# Altium footprint library Gan_cuk converter (2).PcbLib: 26 footprints (part 1 of 2)
Each footprint in its own frame and in the unit in brackets; x right, y up, seen from the top. Pads: shape width x height; smd on the part's side, far side on the other; paste and mask are expansions set on the pad; w line width, h text height; cw(c..) or ccw(c..) is an arc to the next point about the centre after c.
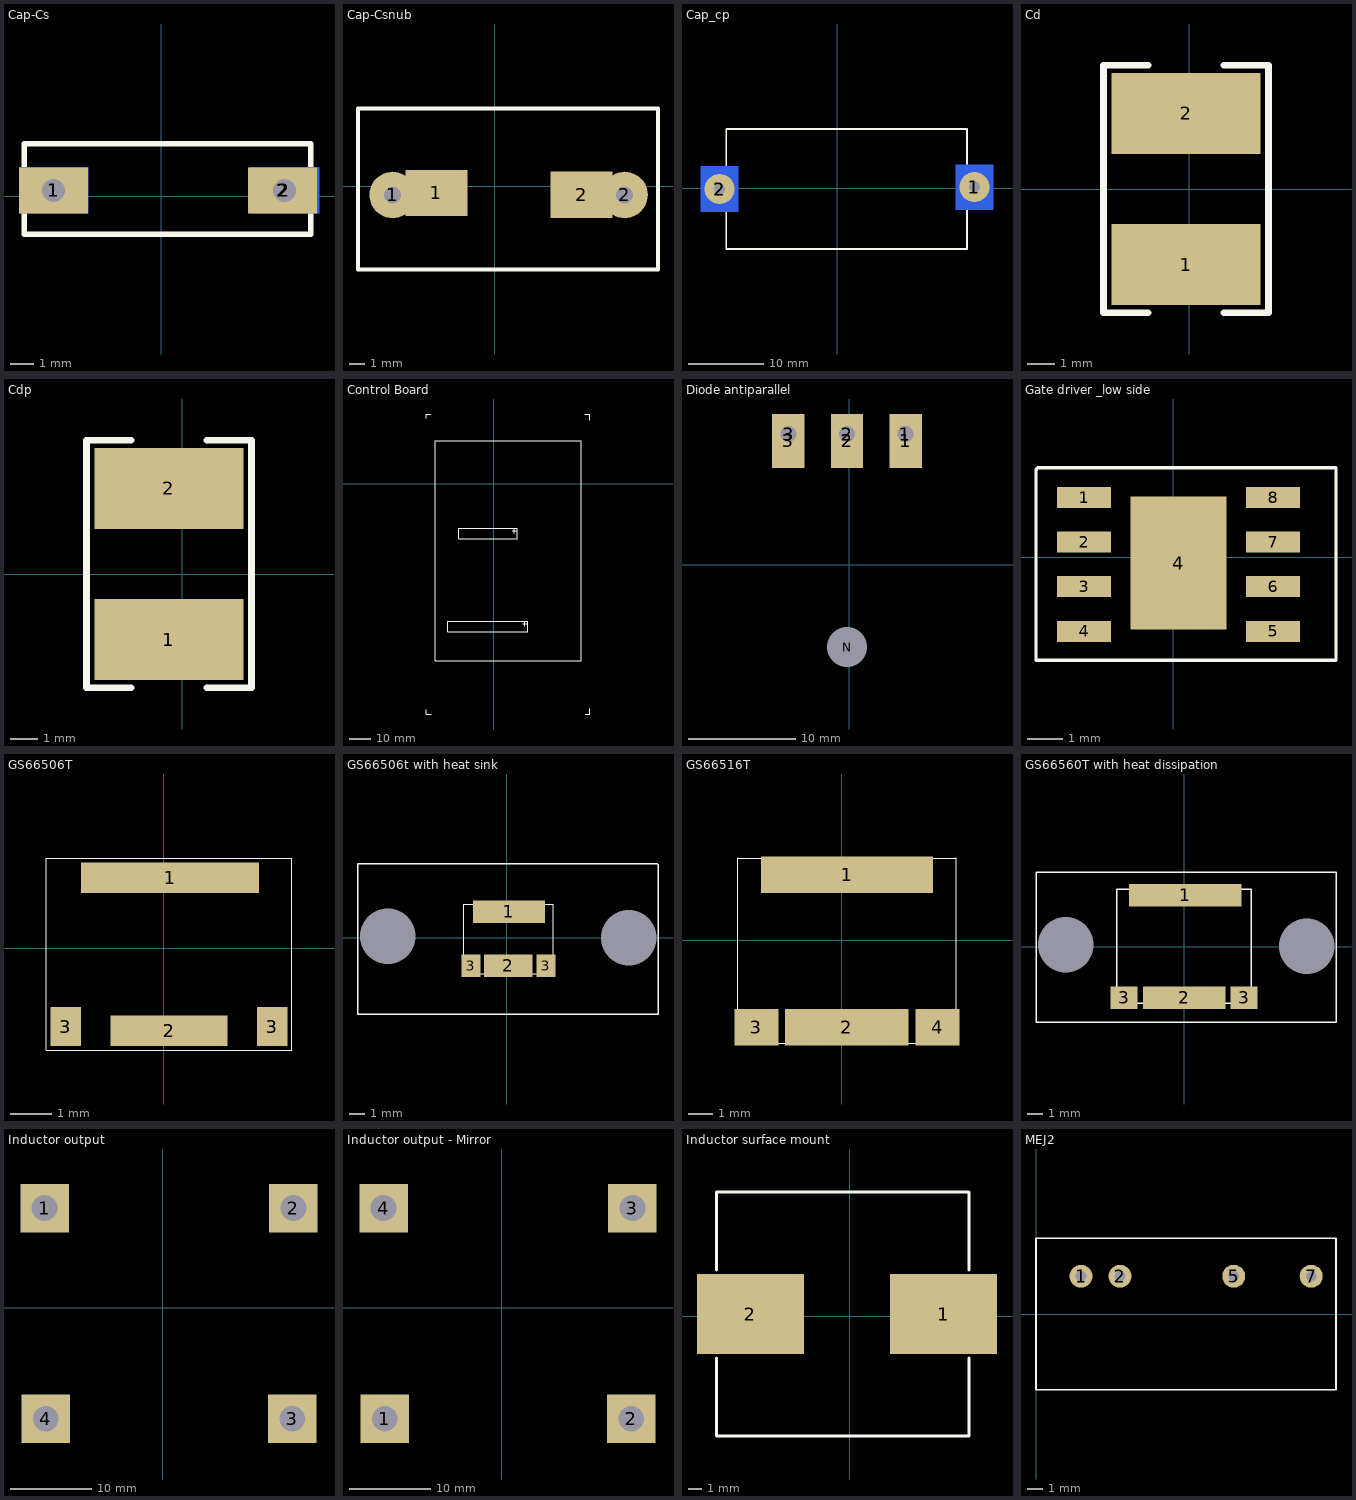
[diagram p0: the footprints below, top view; thin cyan lines are the x and y axes]

## Cap-Cs [mm]
pads (6):
  rect 2x2 hole 1: 1(-4.674,0.254) 2(5.359,0.254)
  rect 3x2 smd: 1(-4.674,0.254) 2(5.279,0.254)
  rect 3x2 smd far side: 1(-4.674,0.254) 2(5.359,0.254)
Top Overlay:
  lines w0.254: -5.944,-1.651 -5.944,2.286 -5.436,2.286 6.502,2.286 6.502,-1.651 -5.944,-1.651
3D body: height 12.7, standoff 0, extent -6.276,-0.848 6.961,1.356

## Cap-Csnub [mm]
pads (4):
  round 3 hole 1.1: 1(-6.607,-0.56) 2(8.421,-0.56)
  rect 4x3 smd: 1(-3.771,-0.433) 2(5.627,-0.56)
Top Overlay:
  lines w0.254: 10.453,-5.386 -8.851,-5.386 -8.851,5.028 10.58,5.028 10.58,3.885 10.58,-5.386
3D body: height 13.77, standoff 0, extent -8.209,-2.162 10.023,1.042

## Cap_cp [mm]
pads (4):
  round 4 hole 1.5: 1(18.263,0.127) 2(-15.646,-0.127)
  rect 5x6 smd far side: 1(18.263,0.127) 2(-15.646,-0.127)
Top Overlay:
  lines w0.254: -14.757,-8.128 17.247,-8.128 17.247,7.874 -14.757,7.874 -14.757,-8.128
3D body: height 22.78, standoff 0, extent -14.884,-8.255 17.374,8.001

## Cd [mm]
pads (2):
  rect 5.5x3 smd: 1(-0.127,-2.794) 2(-0.127,2.794)
Top Overlay:
  lines w0.254: -1.524,-4.572 -3.175,-4.572 -3.175,4.572 -1.524,4.572 ; 1.27,-4.572 2.921,-4.572 2.921,4.572 1.27,4.572

## Cdp [mm]
pads (2):
  rect 5.5x3 smd: 1(-0.483,-2.413) 2(-0.483,3.175)
Top Overlay:
  lines w0.254: -1.88,-4.191 -3.531,-4.191 -3.531,4.953 -1.88,4.953 ; 0.914,-4.191 2.565,-4.191 2.565,4.953 0.914,4.953

## Control Board [mm]
Top Overlay:
  lines w0.1: -27.8,20.5 41.65,20.5 41.65,-84.45 -27.8,-84.45 -27.8,20.525
  lines w0.2: -22.018,-70.646 16.082,-70.646 16.082,-65.566 -22.018,-65.566 -22.018,-70.646 ; -16.811,-26.323 -16.811,-21.243 11.129,-21.243 11.129,-26.323 -16.811,-26.323
  lines w0.254: 8.716,-22.513 11.129,-22.513 ; 9.859,-23.656 9.859,-21.243 ; 13.796,-66.836 15.955,-66.836 ; 14.812,-67.852 14.812,-65.566
  lines w0.3: -32.275,-107.73 -32.275,-109.732 -29.795,-109.732 ; -32.275,31.208 -32.275,33.24 -30.019,33.24 ; 43.387,33.24 45.8,33.24 45.8,30.319 ; 43.514,-109.732 45.673,-109.732 45.673,-107.349
3D body: height 50.8, standoff 22.86, extent -32.425,-109.882 45.95,33.39
3D body: height 20.32, standoff 10, extent -27.799,-84.449 41.649,20.499

## Diode antiparallel [mm]
pads (7):
  rect 2.5x2.5 hole 1.5: 1(5.25,12.149)
  rect 3x5 smd: 1(5.271,11.514) 2(-0.19,11.514) 3(-5.651,11.514)
  round 2.5 hole 1.5: 2(-0.19,12.149) 3(-5.63,12.149)
  round 1.5 / inner round 2.5 / far side round 2.5 hole 3.7: N(-0.19,-7.663)
Bottom Overlay:
  lines w0.254: -8.318,-13.886 7.938,-13.886 7.938,7.069 -8.318,7.069 -8.318,-13.886
3D body: height 5.08, standoff 0, extent -8.445,-14.013 8.065,7.196

## Gate driver _low side [mm]
pads (9):
  rect 1.55x0.6 smd: 1(-2.55,1.7) 2(-2.55,0.425) 3(-2.55,-0.85) 4(-2.55,-2.125) 5(2.85,-2.125) 6(2.85,-0.85) 7(2.85,0.425) 8(2.85,1.7)
  rect 2.74x3.8 smd: 4(0.15,-0.175)
Top Overlay:
  lines w0.1: -3.925,-2.95 -3.925,2.5 -3.875,2.55 4.65,2.55 4.65,-2.95 -3.925,-2.95

## GS66506T [mm] "Top cooled 650V enhancement mode GaN transistor"
height 0.44
pads (4):
  rect 4.3x0.74 smd: 1(0.15,1.7)
  rect 2.82x0.74 smd: 2(0.125,-2)
  rect 0.74x0.94 smd: 3(-2.375,-1.9) 3(2.625,-1.9)
Top Overlay:
  lines w0.025: -2.85,-2.475 -2.85,2.172 3.1,2.172 3.1,-2.475 -2.85,-2.475

## GS66506t with heat sink [mm]
pads (6):
  rect 4.8x1.5 smd: 1(0.15,1.7)
  rect 3.23x1.5 smd: 2(0.125,-1.9)
  rect 1.25x1.5 smd: 3(-2.375,-1.9) 3(2.625,-1.9)
  rect 0x0 hole 3.7: ""(-7.9,0.075) ""(8.15,-0.025)
Top Overlay:
  lines w0.025: -2.85,-2.425 3.1,-2.425 3.1,2.222 -2.85,2.222 -2.85,-2.425
  lines w0.1: 10.075,4.9 -9.9,4.9 -9.9,-5.1 10.1,-5.1 10.1,4.875
3D body: height 25.4, standoff 0.5, extent -9.95,-5.15 10.15,4.95
3D body: height 0.5, standoff 0, extent -3.102,-2.752 3.352,2.552

## GS66516T [mm] "Top cooled 650V enhancement mode GaN transistor"
height 0.44
pads (4):
  rect 7.04x1.5 smd: 1(0.212,2.675)
  rect 5.07x1.5 smd: 2(0.2,-3.575)
  rect 1.8x1.5 smd: 3(-3.5,-3.575) 4(3.925,-3.575)
Top Overlay:
  lines w0.025: -4.275,-4.225 -4.275,3.365 ; -4.265,3.35 4.685,3.35 ; -4.24,-4.225 4.71,-4.225 ; 4.7,-4.225 4.7,3.365

## GS66560T with heat dissipation [mm]
pads (6):
  rect 7.5x1.5 smd: 1(0.075,3.4)
  rect 5.5x1.5 smd: 2(0,-3.4)
  rect 1.8x1.5 smd: 3(-4,-3.4) 3(4,-3.4)
  rect 0x0 hole 3.7: ""(-7.875,0.125) ""(8.175,0.025)
Top Overlay:
  lines w0.1: -9.875,-5.05 -9.875,4.95 10.1,4.95 10.125,4.925 10.125,-5.05 -9.875,-5.05 ; -4.475,-3.775 4.475,-3.775 4.475,3.8 -4.475,3.8 -4.475,-3.775
3D body: height 0.5, standoff 0, extent -5.002,-4.252 5.002,4.252
3D body: height 25.4, standoff 0.5, extent -9.925,-5.1 10.175,5

## Inductor output [mm]
pads (4):
  rect 6x6 hole 3.2: 1(-14.622,12.291) 2(16.112,12.291) 3(15.985,-13.744) 4(-14.495,-13.744)
Bottom Overlay:
  lines w0.254: -17.797,-17.046 -17.797,15.466 19.287,15.466 19.287,-17.046 -17.797,-17.046
3D body: height 27.94, standoff 0, extent -17.724,-16.846 19.214,15.393

## Inductor output - Mirror [mm]
pads (4):
  rect 6x6 hole 3.2: 1(-14.495,-13.744) 2(15.985,-13.744) 3(16.112,12.291) 4(-14.622,12.291)
Bottom Overlay:
  lines w0.254: -17.797,-17.046 -17.797,15.466 19.287,15.466 19.287,-17.046 -17.797,-17.046
3D body: height 27.94, standoff 0, extent -17.724,-16.846 19.214,15.393

## Inductor surface mount [mm]
pads (2):
  rect 8x6 smd: 1(7.047,0.163) 2(-7.431,0.163)
Top Overlay:
  lines w0.254: -9.971,-3.139 -9.971,-8.981 8.952,-8.981 8.952,-3.139 ; -9.971,3.465 -9.971,9.307 8.952,9.307 8.952,3.465
3D body: height 9.4, standoff 0, extent -10.098,-9.108 9.079,9.434

## MEJ2 [mm]
pads (4):
  round 1.5 hole 0.7: 1(2.95,2.5) 2(5.5,2.5) 5(12.95,2.5) 7(18.025,2.5)
Top Overlay:
  lines w0.1: 0,-4.95 0,5 19.65,5 19.65,-4.95 0,-4.95
3D body: height 9.24, standoff 0, extent -0.05,-5 19.7,5.05